# EAGLE library part MCP2562 (library CAN)
High-speed CAN Transceiver with Standby Mode CAN FD Ready
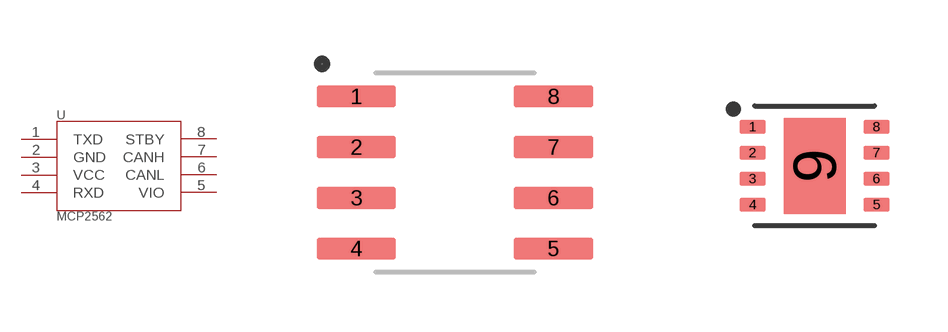
[diagram p0: symbol with the pads of SOIC-8; footprints SOIC-8, DFN-8]

Designator prefix U

## MCP2562-E/SN (MF: Microchip; MP: MCP2562-E/SN; VALUE: MCP2562-E/SN)  [SOIC-8]
1  TXD
2  GND  pwr
3  VCC  pwr
4  RXD
5  VIO  pwr
6  CANL
7  CANH
8  STBY

## MCP2562-E/MF (MF: Microchip; MP: MCP2562-E/MF; VALUE: MCP2562-E/MF)  [DFN-8]
1  TXD
2  GND  pwr
3  VCC  pwr
4  RXD
5  VIO  pwr
6  CANL
7  CANH
8  STBY
9  GND  pwr

## Footprint SOIC-8 (pad centres in mm)
smd 1.981 x 0.559: 1 -2.464,1.905; 2 -2.464,0.635; 3 -2.464,-0.635; 4 -2.464,-1.905; 5 2.464,-1.905; 6 2.464,-0.635; 7 2.464,0.635; 8 2.464,1.905

## Footprint DFN-8 (pad centres in mm)
smd 0.65 x 0.35: 1 -1.55,0.975; 2 -1.55,0.325; 3 -1.55,-0.325; 4 -1.55,-0.975; 5 1.55,-0.975; 6 1.55,-0.325; 7 1.55,0.325; 8 1.55,0.975
smd 1.55 x 2.4: 9 0,0